# Altium schematic symbol library TB_Components.SchLib: 10 symbols
Pins are listed as number, name and electrical type; pins without a type are passive.

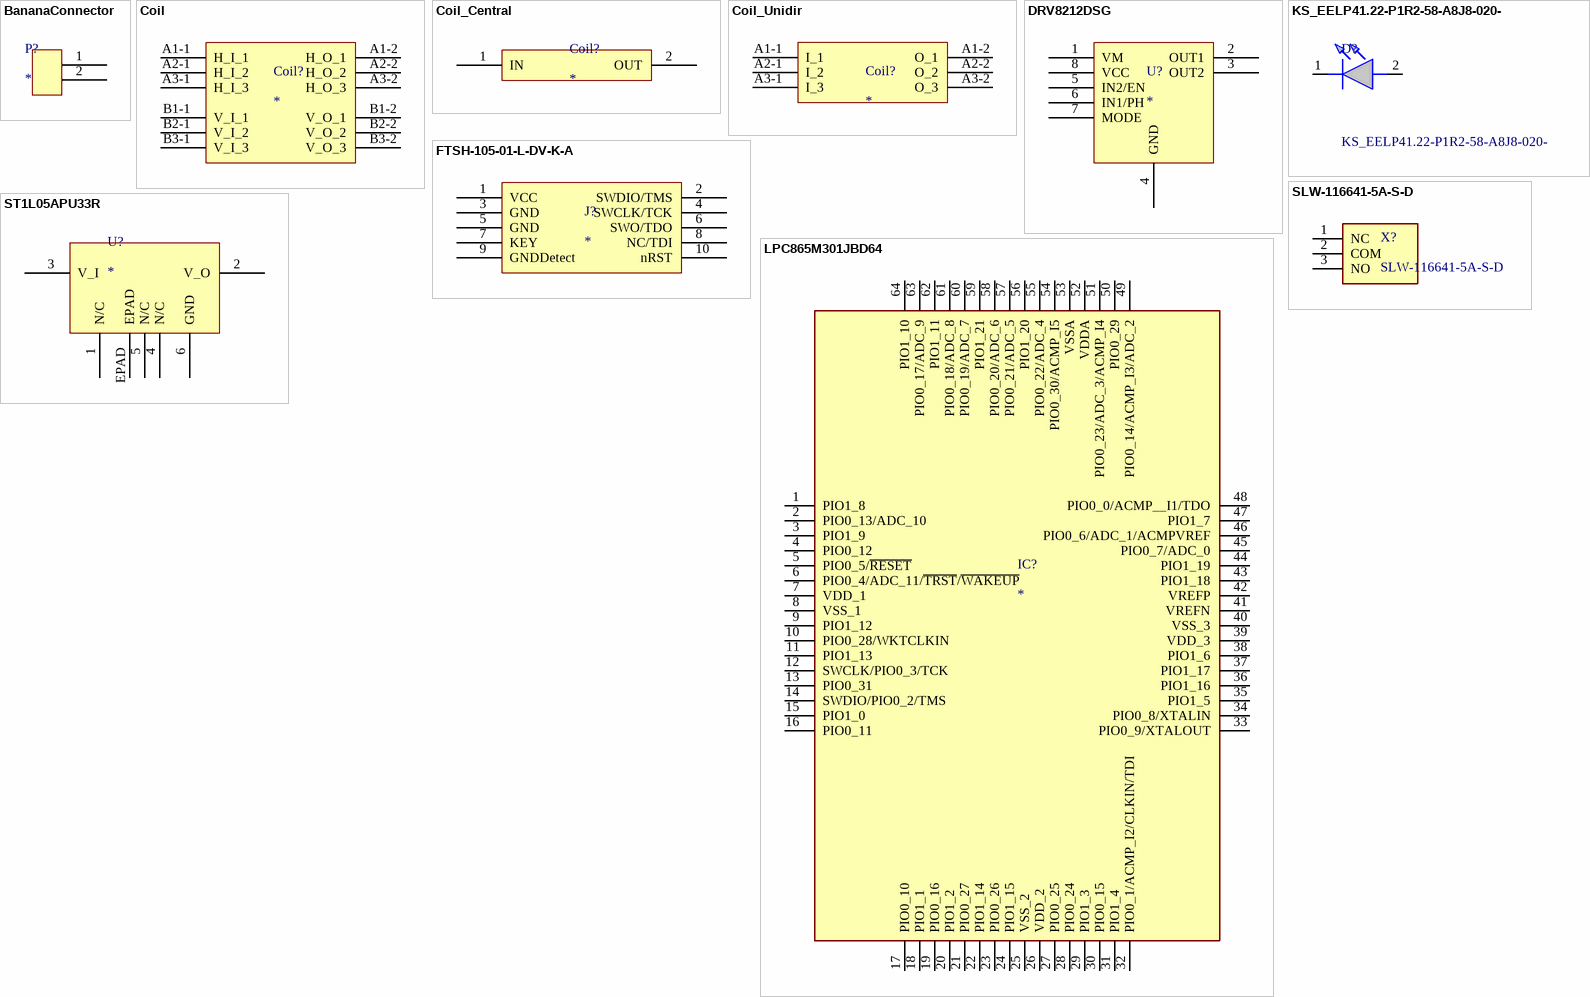
[diagram p0: symbols BananaConnector to ST1L05APU33R]

## BananaConnector
designator P?
footprint Delton Banana Plug 100 Black
footprint Delton Banana Plug 500 Red
pins: 1, 2

## Coil
designator Coil?
footprint Bidirectional_Coil
pins: A1-1 H_I_1, A1-2 H_O_1, A2-1 H_I_2, A2-2 H_O_2, A3-1 H_I_3, A3-2 H_O_3, B1-1 V_I_1, B1-2 V_O_1, B2-1 V_I_2, B2-2 V_O_2, B3-1 V_I_3, B3-2 V_O_3

## Coil_Central
designator Coil?
pins: 1 IN, 2 OUT

## Coil_Unidir
designator Coil?
footprint Unidirectional_Coil
pins: A1-1 I_1, A1-2 O_1, A2-1 I_2, A2-2 O_2, A3-1 I_3, A3-2 O_3

## DRV8212DSG
designator U?
footprint DRV8212DSGR
pins: 1 VM, 2 OUT1, 3 OUT2, 4 GND, 5 IN2/EN, 6 IN1/PH, 7 MODE, 8 VCC

## FTSH-105-01-L-DV-K-A
designator J?
footprint FTSH-105-01-L-DV-K-A
pins: 1 VCC, 2 SWDIO/TMS, 3 GND, 4 SWCLK/TCK, 5 GND, 6 SWO/TDO, 7 KEY, 8 NC/TDI, 9 GNDDetect, 10 nRST

## KS_EELP41.22-P1R2-58-A8J8-020-
designator D?
Standard LEDs - SMD 0603 (1608 metric); Manufacturer_Name: ams OSRAM; Manufacturer_Part_Number: KS EELP41.22-P1R2-58-A8J8-020-R18; Geometry.Height: 0.5mm; Mouser Part Number: 720-P412P1R258A8J802; Mouser Price/Stock: https://www.mouser.co.uk/ProductDetail/ams-OSRAM/KS-EELP41.22-P1R2-58-A8J8-020-R18?qs=ZcfC38r4Povp3XTr6Zxf%252Bw%3D%3D; Datasheet Link: https://www.digikey.ph/en/products/detail/ams-osram-usa-inc/KS-EELP41-22-P1R2-58-A8J8-020-R18/24765247
footprint KSEELP4122P1R258A8J8020R18
pins: 1 K, 2 A

## LPC865M301JBD64
designator IC?
footprint LPC865M301JBD64
pins: 1 PIO1_8, 2 PIO0_13/ADC_10, 3 PIO1_9, 4 PIO0_12, 5 PIO0_5/~{RESET}, 6 PIO0_4/ADC_11/~{TRST}/~{WAKEUP}, 7 VDD_1, 8 VSS_1, 9 PIO1_12, 10 PIO0_28/WKTCLKIN, 11 PIO1_13, 12 SWCLK/PIO0_3/TCK, 13 PIO0_31, 14 SWDIO/PIO0_2/TMS, 15 PIO1_0, 16 PIO0_11, 17 PIO0_10, 18 PIO1_1, 19 PIO0_16, 20 PIO1_2, 21 PIO0_27, 22 PIO1_14, 23 PIO0_26, 24 PIO1_15, 25 VSS_2, 26 VDD_2, 27 PIO0_25, 28 PIO0_24, 29 PIO1_3, 30 PIO0_15, 31 PIO1_4, 32 PIO0_1/ACMP_I2/CLKIN/TDI, 33 PIO0_9/XTALOUT, 34 PIO0_8/XTALIN, 35 PIO1_5, 36 PIO1_16, 37 PIO1_17, 38 PIO1_6, 39 VDD_3, 40 VSS_3, 41 VREFN, 42 VREFP, 43 PIO1_18, 44 PIO1_19, 45 PIO0_7/ADC_0, 46 PIO0_6/ADC_1/ACMPVREF, 47 PIO1_7, 48 PIO0_0/ACMP__I1/TDO, 49 PIO0_14/ACMP_I3/ADC_2, 50 PIO0_29, 51 PIO0_23/ADC_3/ACMP_I4, 52 VDDA, 53 VSSA, 54 PIO0_30/ACMP_I5, 55 PIO0_22/ADC_4, 56 PIO1_20, 57 PIO0_21/ADC_5, 58 PIO0_20/ADC_6, 59 PIO1_21, 60 PIO0_19/ADC_7, 61 PIO0_18/ADC_8, 62 PIO1_11, 63 PIO0_17/ADC_9, 64 PIO1_10

## SLW-116641-5A-S-D
designator X?
11.6 x 6 x 4.1 mm, 5 mm Raised Slide Actuator, Through Hole, Slide Switch
footprint SLW-116641-5A-S-D
pins: 1 NC, 2 COM, 3 NO

## ST1L05APU33R
designator U?
DFN6 (3x3 mm) Input -0.3 to 7V and output 3.3V at max 1.3A
footprint ST1L05APU33R
pins: 1 N/C, 2 V_O, 3 V_I, 4 N/C, 5 N/C, 6 GND, EPAD